# Altium schematic symbol library Voltage buffer (Nolan).SchLib: 1 symbol
Pins are listed as number, name and electrical type; pins without a type are passive.

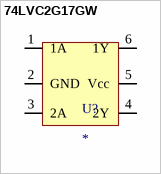
[diagram p0: symbol 74LVC2G17GW]

## 74LVC2G17GW
designator U?
pins: 1 1A, 2 GND, 3 2A, 4 2Y, 5 Vcc, 6 1Y